# Altium footprint library BSS138W.PcbLib: 1 footprints
Each footprint in its own frame and in the unit in brackets; x right, y up, seen from the top. Pads: shape width x height; smd on the part's side, far side on the other; paste and mask are expansions set on the pad; w line width, h text height; cw(c..) or ccw(c..) is an arc to the next point about the centre after c.
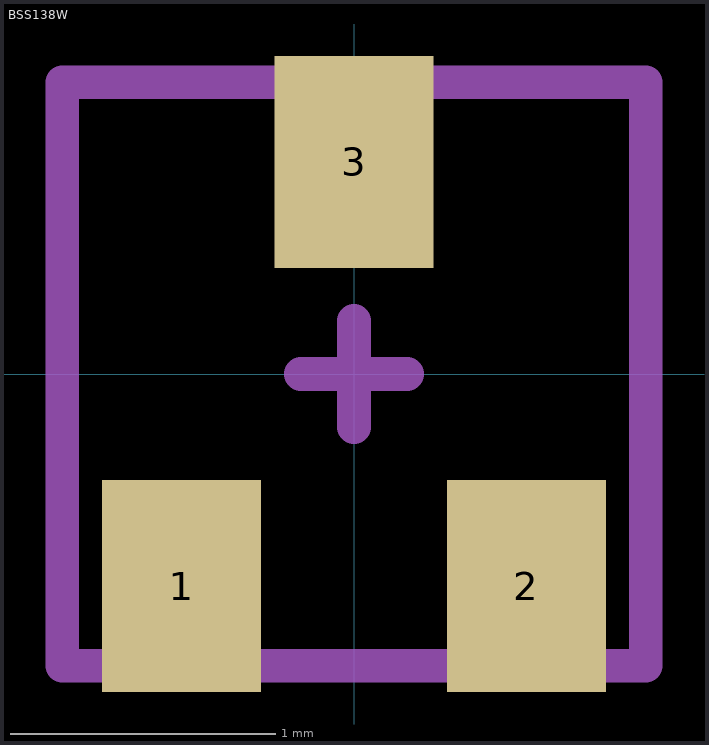
[diagram p0: the footprint, top view; thin cyan lines are the x and y axes]

## BSS138W [mm]
height 1
pads (3):
  rect 0.6x0.8 smd mask+0.051: 1(-0.65,-0.8) 2(0.65,-0.8) 3(0,0.8)
Mechanical 13:
  lines w0.127: -1.1,-1.1 -1.1,1.1 1.1,1.1 1.1,-1.1 -1.1,-1.1
Mechanical 15:
  lines w0.127: -0.2,0 0,0 ; 0,-0.2 0,0 ; 0,0.2 0,0 ; 0.2,0 0,0
3D body "SOT323 (SC70-3).STEP": height 1.1, standoff 0, extent -1.1,-1.145 1.1,1.1